# Altium footprint library Misc.PcbLib: 133 footprints (part 3 of 9)
Each footprint in its own frame and in the unit in brackets; x right, y up, seen from the top. Pads: shape width x height; smd on the part's side, far side on the other; paste and mask are expansions set on the pad; w line width, h text height; cw(c..) or ccw(c..) is an arc to the next point about the centre after c.
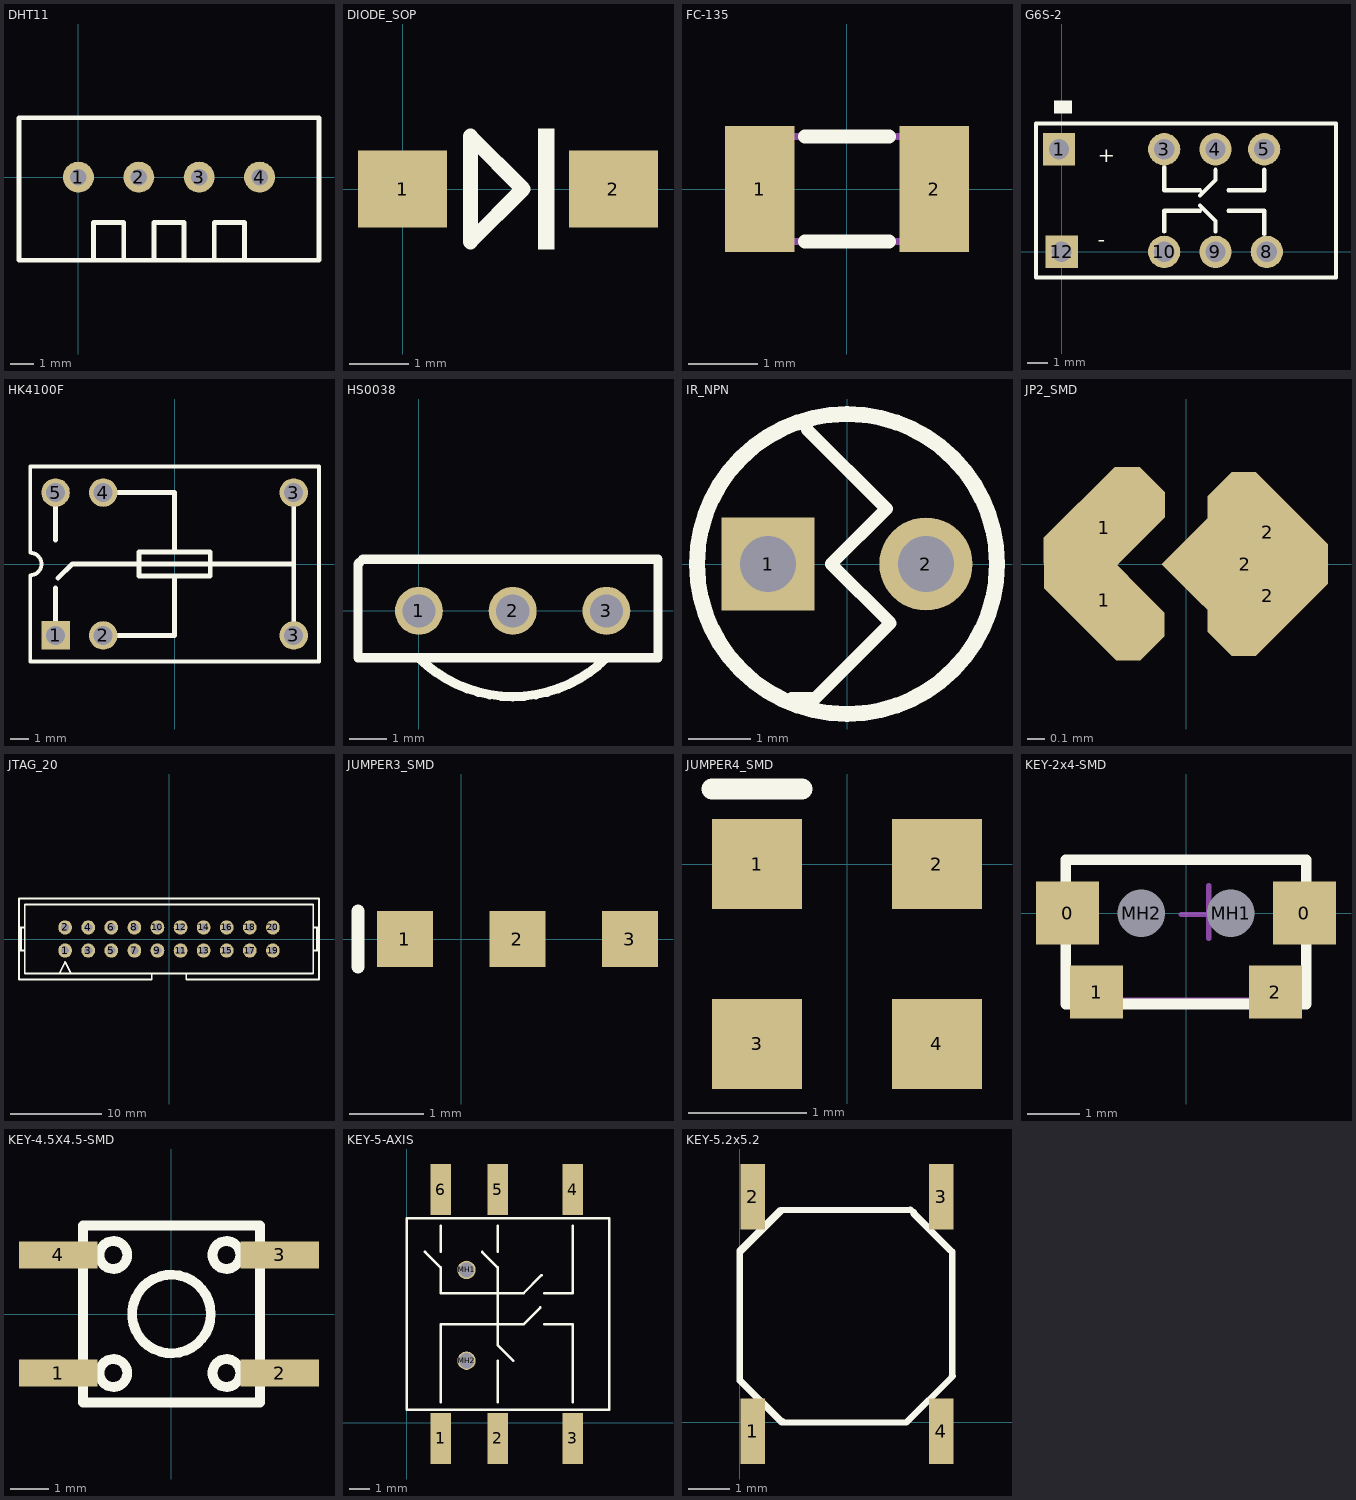
[diagram p2: the footprints below, top view; thin cyan lines are the x and y axes]

## Description-2 [mm]
Bottom Overlay:
  text "N" at 32.029,-2.87 h2.03

## DHT11 [mm]
pads (4):
  round 1.3 hole 0.7: 1(0,0) 2(2.54,0) 3(5.08,0) 4(7.62,0)
Top Overlay:
  lines w0.203: -2.5,-3.5 7.62,-3.5 10.12,-3.5 ; -2.5,-3.46 -2.5,0 -2.5,2.5 7.62,2.5 10.12,2.5 10.12,0 10.12,-3.46 ; 0.635,-3.5 0.635,-1.905 1.905,-1.905 1.905,-3.5 ; 3.175,-3.5 3.175,-1.905 4.445,-1.905 4.445,-3.5 ; 5.715,-3.5 5.715,-1.905 6.985,-1.905 6.985,-3.5

## DIODE_SOP [mm]
pads (2):
  rect 1.5x1.3 smd: 1(0,0) 2(3.556,0)
Top Overlay:
  rectangle: 2.286,-1.016 2.559,1.016
  lines w0.254: 1.143,-0.889 2.032,0 1.143,0.889 1.143,-0.889

## FC-135 [mm] "EPSON TOYOCOM - FC-135 32.768KHZ ?0PPM,9.0PF - CRYSTAL, SM, WATCH"
height 0.8
pads (2):
  rect 1x1.8 smd: 1(-1.25,0) 2(1.25,0)
Top Overlay:
  lines w0.2: -0.6,-0.75 0.6,-0.75 ; -0.6,0.75 0.6,0.75
Mechanical 3:
  lines w0.1: -1.6,-0.55 cw(c-1.6,-0.75) -1.4,-0.75 1.4,-0.75 cw(c1.6,-0.75) 1.6,-0.55 1.6,0.55 cw(c1.6,0.75) 1.4,0.75 -1.4,0.75 cw(c-1.6,0.75) -1.6,0.55 -1.6,-0.55
3D body: height 0.81, standoff 0.15, extent -1.2,-0.6 1.2,0.6
3D body: height 0.81, standoff 0, extent -1.6,-0.75 1.6,0.75

## G6S-2 [mm]
pads (8):
  rect 1.6x1.6 hole 1: 1(-0.127,5.08) 12(0,0)
  round 1.6 hole 1: 3(5.08,5.08) 4(7.62,5.08) 5(10.033,5.08) 8(10.16,0) 9(7.62,0) 10(5.08,0)
Top Overlay:
  rectangle: -0.381,6.858 0.508,7.493
  lines w0.203: 5.08,1.016 5.08,2.032 6.858,2.032 ; 5.08,4.191 5.08,3.048 6.858,3.048 ; 6.858,2.286 7.62,1.524 7.62,1.016 ; 6.858,2.794 7.62,3.556 7.62,4.064 ; 8.255,2.032 10.033,2.032 10.033,0.889 ; 8.255,3.048 10.033,3.048 10.033,4.064 ; -1.27,-1.27 13.589,-1.27 13.589,6.35 -1.27,6.35 -1.27,-1.27
  text "+" at 1.778,4.445 h0.76
  text "-" at 1.778,0.254 h0.76
3D body: height 2.65, standoff 0, extent -1.313,-1.21 13.589,6.29

## HK4100F [mil]
pads (6):
  rect 60x60 hole 40: 1(-250,-150)
  round 60 hole 40: 2(-150,-150) 3(250,-150) 3(250,150) 4(-150,150) 5(-250,150)
Top Overlay:
  lines w8: -303.15,-204.72 -303.15,-23.62 ccw(c-303.15,0) -303.15,23.62 -303.15,204.72 303.15,204.72 303.15,-204.72 -303.15,-204.72
  lines w10: -250,-150 -250,-50 ; -250,50 -250,150 ; -245,-30 -215,0 250,0 ; -150,-150 0,-150 0,-25 ; -150,150 0,150 0,25 ; 250,-150 250,150 ; -75,-25 75,-25 75,25 -75,25 -75,-25

## HS0038 [mm]
pads (3):
  round 1.3 hole 0.9: 1(0,0) 2(2.54,0) 3(5.08,0)
Top Overlay:
  lines w0.254: 0,-1.27 ccw(c2.54,1.27) 5.08,-1.27 ; -1.651,-1.27 6.477,-1.27 6.477,1.397 -1.524,1.397 -1.651,1.27 -1.651,-1.27

## IR_NPN [mm]
pads (2):
  rect 1.5x1.5 hole 0.9: 1(-1.27,0)
  round 1.5 hole 0.9: 2(1.27,0)
Top Overlay:
  circle w0.254: c0,0 r2.413
  lines w0.203: -0.889,-2.159 -0.508,-2.159 0.699,-0.953 -0.254,0 0.635,0.889 -0.635,2.159

## JP2_SMD [mil]
pads (5):
  oct 15x30 smd rot 45: 1(-18,-8) 2(18,7)
  oct 15.75x30 smd rot 135: 1(-18,8)
  rect 26x26 smd rot 45: 2(13,0)
  oct 15x30 smd rot 135: 2(18,-7)

## JTAG_20 [mm]
pads (20):
  oval 1.5x1.575 hole 0.9: 1(-11.43,-1.27) 2(-11.43,1.27) 3(-8.89,-1.27) 4(-8.89,1.27) 5(-6.35,-1.27) 6(-6.35,1.27) 7(-3.81,-1.27) 8(-3.81,1.27) 9(-1.27,-1.27) 10(-1.27,1.27) 11(1.27,-1.27) 12(1.27,1.27) 13(3.81,-1.27) 14(3.81,1.27) 15(6.35,-1.27) 16(6.35,1.27) 17(8.89,-1.27) 18(8.89,1.27) 19(11.43,-1.27) 20(11.43,1.27)
Top Overlay:
  lines w0.203: -16.51,-1.27 -15.875,-1.27 ; -16.51,1.27 -15.875,1.27 ; -16.298,-1.27 -16.298,1.27 ; -12.065,-3.81 -11.43,-2.54 -10.795,-3.81 ; -8.625,-4.445 -1.905,-4.445 -1.905,-3.81 ; -8.255,-4.445 -16.51,-4.445 -16.51,4.445 16.51,4.445 16.51,-4.445 8.255,-4.445 1.905,-4.445 1.905,-3.81 ; 15.875,-1.27 16.51,-1.27 ; 15.875,1.27 16.51,1.27 ; 16.298,-1.27 16.298,1.27 ; -1.905,-3.81 1.905,-3.81 ; -1.905,-3.81 -15.875,-3.81 -15.875,3.81 15.875,3.81 15.875,-3.81 1.905,-3.81

## JUMPER3_SMD [mil]
pads (3):
  rect 30x30 smd: 1(-30,0) 2(30,0) 3(90,0)
Top Overlay:
  lines w7: -55,-15 -55,15

## JUMPER4_SMD [mil]
pads (4):
  rect 30x30 smd: 1(-30,0) 2(30,0) 3(-30,-60) 4(30,-60)
Top Overlay:
  lines w7: -45,25 -15,25

## KEY-2x4-SMD [mm] "6.8MM,2.8MM,SMD"
pads (6):
  rect 1.2x1.2 smd: 0(-2.25,0) 0(2.25,0)
  rect 1x1 smd: 1(-1.7,-1.5) 2(1.7,-1.5)
  round 0.8 hole 0.9 unplated: MH1(0.85,0) MH2(-0.85,0)
Top Overlay:
  lines w0.2: -2.286,-1.727 -2.286,1.016 ; 2.286,-1.727 2.286,1.016
  lines w0.203: -2.286,-1.727 2.286,-1.727 ; -2.286,1.016 2.286,1.016
Mechanical 13:
  lines w0.1: -2.286,-1.651 2.286,-1.651 2.286,1.016 -2.286,1.016 -2.286,-1.651
Mechanical 15:
  lines w0.1: -0.094,-0.025 0.906,-0.025 ; 0.432,-0.483 0.432,0.517
3D body: height 1.1, standoff 0, extent -2.285,-1.6 2.286,0.94

## KEY-4.5X4.5-SMD [mil]
height 200
pads (4):
  rect 80x27.56 smd: 1(-115,-60) 2(110,-60) 3(110,60) 4(-115,60)
Top Overlay:
  circle w10: c0,0 r40
  circle w10: c-59.14,60 r14.14
  circle w10: c55.86,60 r14.14
  circle w10: c-59.14,-60 r14.14
  circle w10: c55.86,-60 r14.14
  lines w10: -90,-90 -90,90 90,90 90,-90 -90,-90

## KEY-5-AXIS [mm] "KEY 5.2*5.2mm"
height 1.3
pads (8):
  rect 1x2.5 smd: 1(1.651,-0.762) 2(4.445,-0.762) 3(8.128,-0.762) 4(8.128,11.43) 5(4.445,11.43) 6(1.651,11.43)
  round 0.9 hole 0.75 unplated: MH1(2.921,7.493) MH2(2.921,3.048)
Top Overlay:
  lines w0.127: 0.889,8.382 1.651,7.62 1.651,6.35 3.937,6.35 5.207,6.35 5.715,6.35 6.604,7.239 ; 1.651,1.016 1.651,4.191 1.651,4.826 5.715,4.826 6.54,5.651 ; 1.651,8.382 1.651,9.652 ; 3.683,8.382 4.445,7.62 4.445,4.826 4.445,3.81 5.207,3.048 ; 4.445,1.016 4.445,3.048 ; 4.445,8.382 4.445,9.652 ; 6.731,4.826 8.128,4.826 8.128,1.016 ; 6.731,6.35 8.128,6.35 8.128,9.652 ; 0,0.635 9.906,0.635 9.906,10.033 0,10.033 0,0.635

## KEY-5.2x5.2 [mm] "KEY 5.2*5.2mm"
height 1.3
pads (4):
  rect 0.6x1.6 smd: 1(0.315,-0.214) 2(0.315,5.501) 3(4.912,5.501) 4(4.912,-0.214)
Top Overlay:
  lines w0.152: 0.025,1.016 1.016,0.025 1.041,0.025 ; 0.025,4.166 1.016,5.156 ; 4.115,0.051 5.156,1.092 ; 4.242,5.131 4.242,5.08 5.131,4.191 ; 0,1.016 0,4.191 0.991,5.182 4.14,5.182 4.153,5.194 5.182,4.166 5.182,1.143 5.194,1.13 4.064,0 1.016,0 0,1.016